# Altium integrated library NSC Interface.IntLib: 1288 symbols (part 24 of 45)
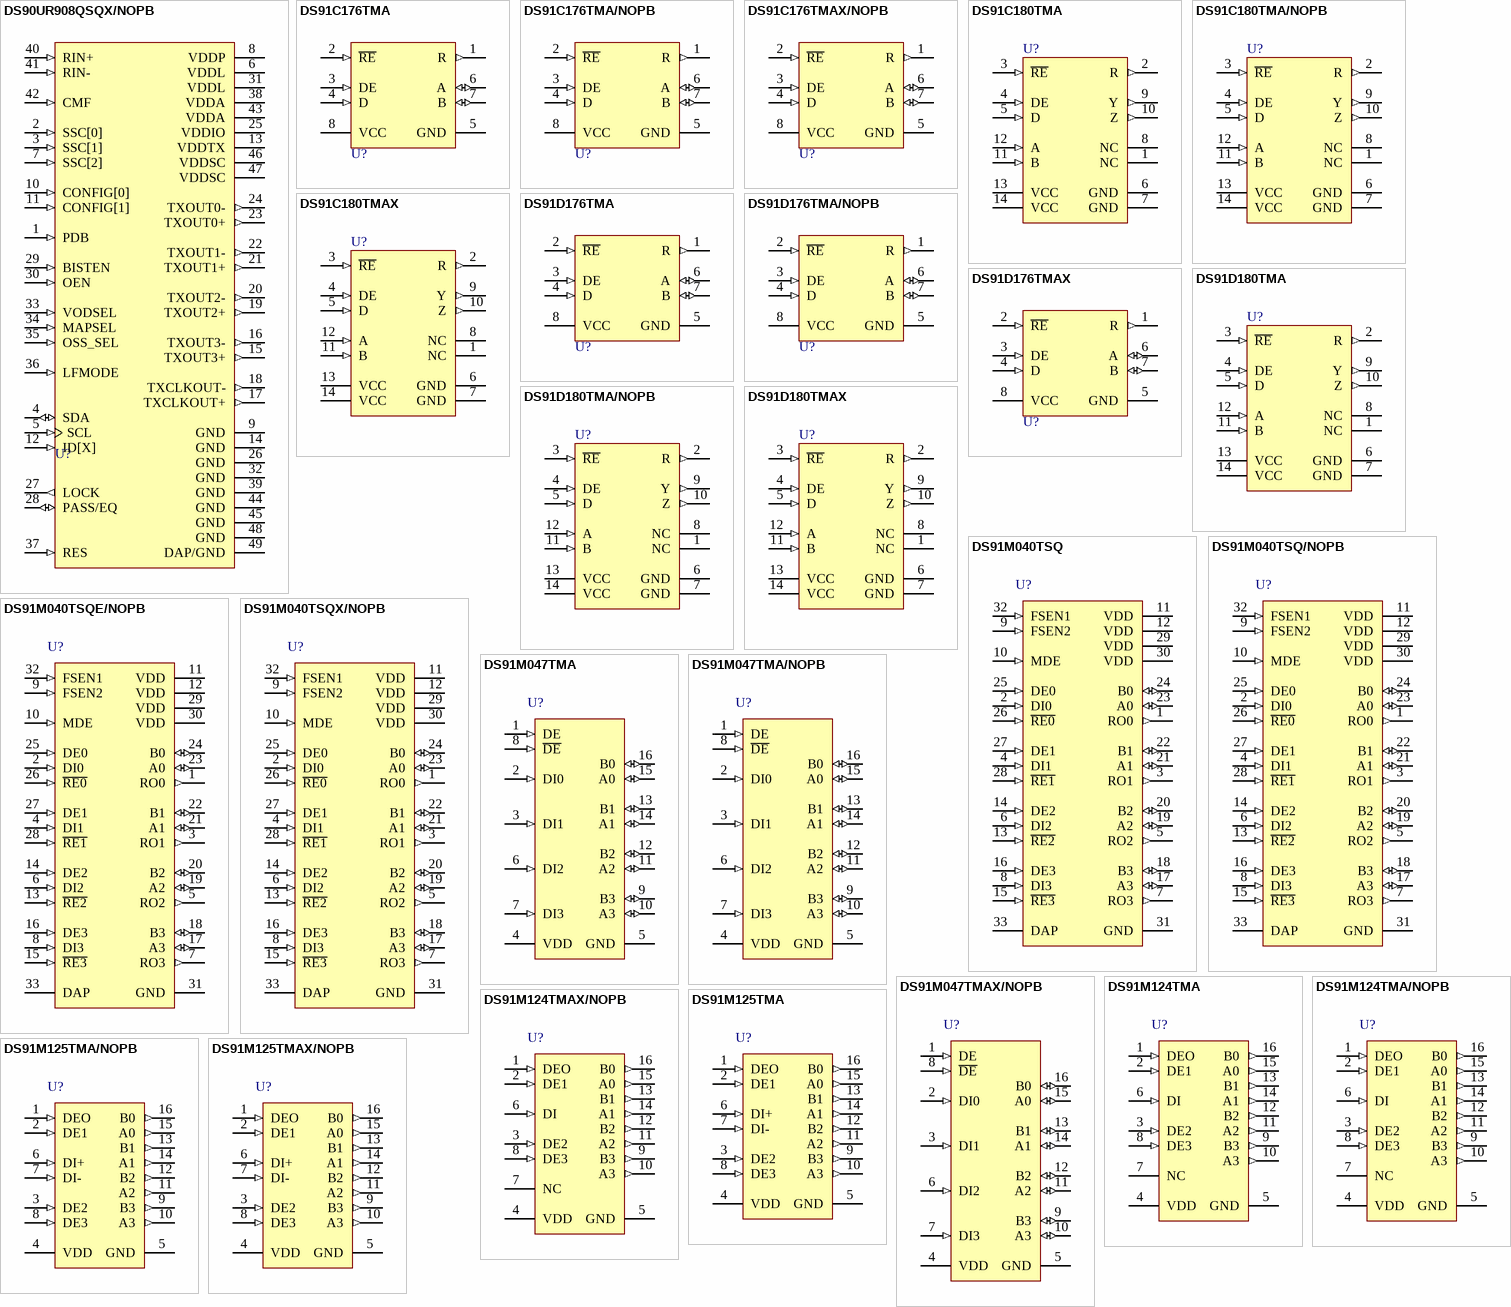
[diagram p135: symbols DS90UR908QSQX/NOPB to DS91M125TMAX/NOPB]

## DS90UR908QSQX/NOPB
designator U?
5-65 MHz 24-bit Color FPD-Link II to FPD-Link Converter, 48 pin LLP; PartNumber: DS90UR908QSQX/NOPB; Manufacturer: National Semiconductor; PackageTopMarking: NS*UZXYTTE#*90UR908Q; PowerWise: Y; CompType: Interface IC; Published: 16-Nov-2010; DatasheetVersion: Aug-2010; PackageVersion: revA, Jul-2004; PackageReference: SQA48D; Publisher: Altium Limited; PackageDescription: LLP, Quad, 7 x 7 x 0.8mm, 48 Lead, 0.5mm Pitch, 4.1 x 4.1 Exposed Pad; RoHS: Y; PinCount: 48; ComponentLink1Description: DS90UR908Q Datasheet; ComponentLink1URL: http://www.national.com/ds/DS/DS90UR908Q.pdf; ComponentLink2Description: DS90UR908Q Web Page; ComponentLink2URL: http://www.national.com/pf/DS/DS90UR908Q.html; ComponentLink3Description: SQA48D Package Page; ComponentLink3URL: http://www.national.com/packaging/folders/sqa48d.html
footprint SQA48D (QFN, 48-Leads, Body 7x7mm, Pitch 0.5mm, NSC Recommended)
pins: 1 PDB (in), 2 SSC[0] (in), 3 SSC[1] (in), 4 SDA (io), 5 SCL (in), 6 VDDL (power), 7 SSC[2] (in), 8 VDDP (power), 9 GND (power), 10 CONFIG[0] (in), 11 CONFIG[1] (in), 12 ID[X] (in), 13 VDDTX (power), 14 GND (power), 15 TXOUT3+ (out), 16 TXOUT3- (out), 17 TXCLKOUT+ (out), 18 TXCLKOUT- (out), 19 TXOUT2+ (out), 20 TXOUT2- (out), 21 TXOUT1+ (out), 22 TXOUT1- (out), 23 TXOUT0+ (out), 24 TXOUT0- (out), 25 VDDIO (power), 26 GND (power), 27 LOCK (out), 28 PASS/EQ (io), 29 BISTEN (in), 30 OEN (in), 31 VDDL (power), 32 GND (power), 33 VODSEL (in), 34 MAPSEL (in), 35 OSS_SEL (in), 36 LFMODE (in), 37 RES (in), 38 VDDA (power), 39 GND (power), 40 RIN+ (in), 41 RIN- (in), 42 CMF (in), 43 VDDA (power), 44 GND (power), 45 GND (power), 46 VDDSC (power), 47 VDDSC (power), 48 GND (power), 49 DAP/GND (power)

## DS91C176TMA
designator U?
100 MHz Single Channel M-LVDS Transceivers, 8-pin Narrow SOIC; PartNumber: DS91C176TMA; Manufacturer: National Semiconductor; PackageTopMarking: NSZXTT*DS91C*176MA; PowerWise: N; CompType: Interface IC; Published: 4-Dec-2008; DatasheetVersion: Nov-2009; PackageVersion: revM, May-2009; PackageReference: M08A; Publisher: Altium Limited; PackageDescription: SOIC Narrow, 4.9 x 3.9 x 1.45mm, 8 Lead, 1.27mm Pitch; Supplier 1: Farnell; Supplier Part Number 1: 1286828; RoHS: N; PinCount: 8; Code_JEDEC: MS-012-AA; Code_IPC: SOIC127P600-8; ComponentLink1Description: DS91C176 Datasheet; ComponentLink1URL: http://www.national.com/ds/DS/DS91C176.pdf; ComponentLink2Description: DS91C176 Web Page; ComponentLink2URL: http://www.national.com/pf/DS/DS91C176.html; ComponentLink3Description: M08A Package Page; ComponentLink3URL: http://www.national.com/packaging/folders/m08a.html
footprint M08A_N (SOIC, 8-Leads, Body 4.9x3.9mm, Pitch 1.27mm, IPC Medium Density)
footprint M08A_L (SOIC, 8-Leads, Body 4.9x3.9mm, Pitch 1.27mm, IPC High Density)
footprint M08A_M (SOIC, 8-Leads, Body 4.9x3.9mm, Pitch 1.27mm, IPC Low Density)
pins: 1 R (out), 2 ~{RE} (in), 3 DE (in), 4 D (in), 5 GND (power), 6 A (io), 7 B (io), 8 VCC (power)

## DS91C176TMA/NOPB
designator U?
100 MHz Single Channel M-LVDS Transceivers, 8-pin Narrow SOIC, Pb-Free; PartNumber: DS91C176TMA/NOPB; Manufacturer: National Semiconductor; PackageTopMarking: NSZXTT*DS91C*176MA; PowerWise: N; CompType: Interface IC; Published: 1-Mar-2010; DatasheetVersion: Nov-2009; PackageVersion: revM, May-2009; PackageReference: M08A; Publisher: Altium Limited; PackageDescription: SOIC Narrow, 4.9 x 3.9 x 1.45mm, 8 Lead, 1.27mm Pitch; Supplier 1: Farnell; Supplier Part Number 1: 1685786; RoHS: Y; PinCount: 8; Code_JEDEC: MS-012-AA; Code_IPC: SOIC127P600-8; ComponentLink1Description: DS91C176 Datasheet; ComponentLink1URL: http://www.national.com/ds/DS/DS91C176.pdf; ComponentLink2Description: DS91C176 Web Page; ComponentLink2URL: http://www.national.com/pf/DS/DS91C176.html; ComponentLink3Description: M08A Package Page; ComponentLink3URL: http://www.national.com/packaging/folders/m08a.html
footprint M08A_N (SOIC, 8-Leads, Body 4.9x3.9mm, Pitch 1.27mm, IPC Medium Density)
footprint M08A_L (SOIC, 8-Leads, Body 4.9x3.9mm, Pitch 1.27mm, IPC High Density)
footprint M08A_M (SOIC, 8-Leads, Body 4.9x3.9mm, Pitch 1.27mm, IPC Low Density)
pins: 1 R (out), 2 ~{RE} (in), 3 DE (in), 4 D (in), 5 GND (power), 6 A (io), 7 B (io), 8 VCC (power)

## DS91C176TMAX/NOPB
designator U?
100 MHz Single Channel M-LVDS Transceivers, 8-pin Narrow SOIC, Pb-Free; PartNumber: DS91C176TMAX/NOPB; Manufacturer: National Semiconductor; PackageTopMarking: NSZXTT*DS91C*176MA; PowerWise: N; CompType: Interface IC; Published: 1-Mar-2010; DatasheetVersion: Nov-2009; PackageVersion: revM, May-2009; PackageReference: M08A; Publisher: Altium Limited; PackageDescription: SOIC Narrow, 4.9 x 3.9 x 1.45mm, 8 Lead, 1.27mm Pitch; RoHS: Y; PinCount: 8; Code_JEDEC: MS-012-AA; Code_IPC: SOIC127P600-8; ComponentLink1Description: DS91C176 Datasheet; ComponentLink1URL: http://www.national.com/ds/DS/DS91C176.pdf; ComponentLink2Description: DS91C176 Web Page; ComponentLink2URL: http://www.national.com/pf/DS/DS91C176.html; ComponentLink3Description: M08A Package Page; ComponentLink3URL: http://www.national.com/packaging/folders/m08a.html
footprint M08A_N (SOIC, 8-Leads, Body 4.9x3.9mm, Pitch 1.27mm, IPC Medium Density)
footprint M08A_L (SOIC, 8-Leads, Body 4.9x3.9mm, Pitch 1.27mm, IPC High Density)
footprint M08A_M (SOIC, 8-Leads, Body 4.9x3.9mm, Pitch 1.27mm, IPC Low Density)
pins: 1 R (out), 2 ~{RE} (in), 3 DE (in), 4 D (in), 5 GND (power), 6 A (io), 7 B (io), 8 VCC (power)

## DS91C180TMA
designator U?
100 MHz M-LVDS Line Driver/Receiver Pair, 14-pin Narrow SOIC; PartNumber: DS91C180TMA; Manufacturer: National Semiconductor; PackageTopMarking: NSUZXYTT*DS91C180*TMA; PowerWise: N; CompType: Interface IC; Published: 4-Dec-2008; DatasheetVersion: Nov-2009; PackageVersion: revJ, Jan-1996; PackageReference: M14A; Publisher: Altium Limited; PackageDescription: Molded Package S.O., .150in Wide, 14 Lead; Supplier 1: Farnell; Supplier Part Number 1: 1286829; RoHS: Y; PinCount: 14; Code_JEDEC: MS-012AB; Code_IPC: SOIC127P600-14; ComponentLink1Description: DS91C180 Datasheet; ComponentLink1URL: http://www.national.com/ds/DS/DS91C180.pdf; ComponentLink2Description: DS91C180 Web Page; ComponentLink2URL: http://www.national.com/pf/DS/DS91C180.html; ComponentLink3Description: M14A Package Page; ComponentLink3URL: http://www.national.com/packaging/folders/m14a.html
footprint M14A_N (SOIC, 14-Leads, Body 8.6x3.9mm, Pitch 1.27mm, IPC Medium Density)
footprint M14A_L (SOIC, 14-Leads, Body 8.6x3.9mm, Pitch 1.27mm, IPC High Density)
footprint M14A_M (SOIC, 14-Leads, Body 8.6x3.9mm, Pitch 1.27mm, IPC Low Density)
pins: 1 NC, 2 R (out), 3 ~{RE} (in), 4 DE (in), 5 D (in), 6 GND (power), 7 GND (power), 8 NC, 9 Y (out), 10 Z (out), 11 B (in), 12 A (in), 13 VCC (power), 14 VCC (power)

## DS91C180TMA/NOPB
designator U?
100 MHz M-LVDS Line Driver/Receiver Pair, 14-pin Narrow SOIC, Pb-Free; PartNumber: DS91C180TMA/NOPB; Manufacturer: National Semiconductor; PackageTopMarking: NSUZXYTTE#*DS91C180*TMA; PowerWise: N; CompType: Interface IC; Published: 1-Mar-2010; DatasheetVersion: Nov-2009; PackageVersion: revJ, Jan-1996; PackageReference: M14A; Publisher: Altium Limited; PackageDescription: Molded Package S.O., .150in Wide, 14 Lead; RoHS: Y; PinCount: 14; Code_JEDEC: MS-012AB; Code_IPC: SOIC127P600-14; ComponentLink1Description: DS91C180 Datasheet; ComponentLink1URL: http://www.national.com/ds/DS/DS91C180.pdf; ComponentLink2Description: DS91C180 Web Page; ComponentLink2URL: http://www.national.com/pf/DS/DS91C180.html; ComponentLink3Description: M14A Package Page; ComponentLink3URL: http://www.national.com/packaging/folders/m14a.html
footprint M14A_N (SOIC, 14-Leads, Body 8.6x3.9mm, Pitch 1.27mm, IPC Medium Density)
footprint M14A_L (SOIC, 14-Leads, Body 8.6x3.9mm, Pitch 1.27mm, IPC High Density)
footprint M14A_M (SOIC, 14-Leads, Body 8.6x3.9mm, Pitch 1.27mm, IPC Low Density)
pins: 1 NC, 2 R (out), 3 ~{RE} (in), 4 DE (in), 5 D (in), 6 GND (power), 7 GND (power), 8 NC, 9 Y (out), 10 Z (out), 11 B (in), 12 A (in), 13 VCC (power), 14 VCC (power)

## DS91C180TMAX
designator U?
100 MHz M-LVDS Line Driver/Receiver Pair, 14-pin Narrow SOIC; PartNumber: DS91C180TMAX; Manufacturer: National Semiconductor; PackageTopMarking: NSUZXYTTE#*DS91C180*TMA; PowerWise: N; CompType: Interface IC; Published: 1-Mar-2010; DatasheetVersion: Nov-2009; PackageVersion: revJ, Jan-1996; PackageReference: M14A; Publisher: Altium Limited; PackageDescription: Molded Package S.O., .150in Wide, 14 Lead; RoHS: N; PinCount: 14; Code_JEDEC: MS-012AB; Code_IPC: SOIC127P600-14; ComponentLink1Description: DS91C180 Datasheet; ComponentLink1URL: http://www.national.com/ds/DS/DS91C180.pdf; ComponentLink2Description: DS91C180 Web Page; ComponentLink2URL: http://www.national.com/pf/DS/DS91C180.html; ComponentLink3Description: M14A Package Page; ComponentLink3URL: http://www.national.com/packaging/folders/m14a.html
footprint M14A_N (SOIC, 14-Leads, Body 8.6x3.9mm, Pitch 1.27mm, IPC Medium Density)
footprint M14A_L (SOIC, 14-Leads, Body 8.6x3.9mm, Pitch 1.27mm, IPC High Density)
footprint M14A_M (SOIC, 14-Leads, Body 8.6x3.9mm, Pitch 1.27mm, IPC Low Density)
pins: 1 NC, 2 R (out), 3 ~{RE} (in), 4 DE (in), 5 D (in), 6 GND (power), 7 GND (power), 8 NC, 9 Y (out), 10 Z (out), 11 B (in), 12 A (in), 13 VCC (power), 14 VCC (power)

## DS91D176TMA
designator U?
100 MHz Single Channel M-LVDS Transceivers, 8-pin Narrow SOIC; PartNumber: DS91D176TMA; Manufacturer: National Semiconductor; PackageTopMarking: NSZXTT*DS91D*176MA; PowerWise: N; CompType: Interface IC; Published: 4-Dec-2008; DatasheetVersion: Nov-2009; PackageVersion: revM, May-2009; PackageReference: M08A; Publisher: Altium Limited; PackageDescription: SOIC Narrow, 4.9 x 3.9 x 1.45mm, 8 Lead, 1.27mm Pitch; Supplier 1: Farnell; Supplier Part Number 1: 1286830; RoHS: Y; PinCount: 8; Code_JEDEC: MS-012-AA; Code_IPC: SOIC127P600-8; ComponentLink1Description: DS91D176 Datasheet; ComponentLink1URL: http://www.national.com/ds/DS/DS91D176.pdf; ComponentLink2Description: DS91D176 Web Page; ComponentLink2URL: http://www.national.com/pf/DS/DS91D176.html; ComponentLink3Description: M08A Package Page; ComponentLink3URL: http://www.national.com/packaging/folders/m08a.html
footprint M08A_N (SOIC, 8-Leads, Body 4.9x3.9mm, Pitch 1.27mm, IPC Medium Density)
footprint M08A_L (SOIC, 8-Leads, Body 4.9x3.9mm, Pitch 1.27mm, IPC High Density)
footprint M08A_M (SOIC, 8-Leads, Body 4.9x3.9mm, Pitch 1.27mm, IPC Low Density)
pins: 1 R (out), 2 ~{RE} (in), 3 DE (in), 4 D (in), 5 GND (power), 6 A (io), 7 B (io), 8 VCC (power)

## DS91D176TMA/NOPB
designator U?
100 MHz Single Channel M-LVDS Transceivers, 8-pin Narrow SOIC, Pb-Free; PartNumber: DS91D176TMA/NOPB; Manufacturer: National Semiconductor; PackageTopMarking: NSZXTT*DS91D*176MA; PowerWise: N; CompType: Interface IC; Published: 1-Mar-2010; DatasheetVersion: Nov-2009; PackageVersion: revM, May-2009; PackageReference: M08A; Publisher: Altium Limited; PackageDescription: SOIC Narrow, 4.9 x 3.9 x 1.45mm, 8 Lead, 1.27mm Pitch; Supplier 1: Farnell; Supplier Part Number 1: 1654919; RoHS: Y; PinCount: 8; Code_JEDEC: MS-012-AA; Code_IPC: SOIC127P600-8; ComponentLink1Description: DS91D176 Datasheet; ComponentLink1URL: http://www.national.com/ds/DS/DS91D176.pdf; ComponentLink2Description: DS91D176 Web Page; ComponentLink2URL: http://www.national.com/pf/DS/DS91D176.html; ComponentLink3Description: M08A Package Page; ComponentLink3URL: http://www.national.com/packaging/folders/m08a.html
footprint M08A_N (SOIC, 8-Leads, Body 4.9x3.9mm, Pitch 1.27mm, IPC Medium Density)
footprint M08A_L (SOIC, 8-Leads, Body 4.9x3.9mm, Pitch 1.27mm, IPC High Density)
footprint M08A_M (SOIC, 8-Leads, Body 4.9x3.9mm, Pitch 1.27mm, IPC Low Density)
pins: 1 R (out), 2 ~{RE} (in), 3 DE (in), 4 D (in), 5 GND (power), 6 A (io), 7 B (io), 8 VCC (power)

## DS91D176TMAX
designator U?
100 MHz Single Channel M-LVDS Transceivers, 8-pin Narrow SOIC; PartNumber: DS91D176TMAX; Manufacturer: National Semiconductor; PackageTopMarking: NSZXTT*DS91D*176MA; PowerWise: N; CompType: Interface IC; Published: 1-Mar-2010; DatasheetVersion: Nov-2009; PackageVersion: revM, May-2009; PackageReference: M08A; Publisher: Altium Limited; PackageDescription: SOIC Narrow, 4.9 x 3.9 x 1.45mm, 8 Lead, 1.27mm Pitch; RoHS: N; PinCount: 8; Code_JEDEC: MS-012-AA; Code_IPC: SOIC127P600-8; ComponentLink1Description: DS91D176 Datasheet; ComponentLink1URL: http://www.national.com/ds/DS/DS91D176.pdf; ComponentLink2Description: DS91D176 Web Page; ComponentLink2URL: http://www.national.com/pf/DS/DS91D176.html; ComponentLink3Description: M08A Package Page; ComponentLink3URL: http://www.national.com/packaging/folders/m08a.html
footprint M08A_N (SOIC, 8-Leads, Body 4.9x3.9mm, Pitch 1.27mm, IPC Medium Density)
footprint M08A_L (SOIC, 8-Leads, Body 4.9x3.9mm, Pitch 1.27mm, IPC High Density)
footprint M08A_M (SOIC, 8-Leads, Body 4.9x3.9mm, Pitch 1.27mm, IPC Low Density)
pins: 1 R (out), 2 ~{RE} (in), 3 DE (in), 4 D (in), 5 GND (power), 6 A (io), 7 B (io), 8 VCC (power)

## DS91D180TMA
designator U?
100 MHz M-LVDS Line Driver/Receiver Pair, 14-pin Narrow SOIC; PartNumber: DS91D180TMA; Manufacturer: National Semiconductor; PackageTopMarking: NSUZXYTTE#*DS91D180*TMA; PowerWise: N; CompType: Interface IC; Published: 4-Dec-2008; DatasheetVersion: Nov-2009; PackageVersion: revJ, Jan-1996; PackageReference: M14A; Publisher: Altium Limited; PackageDescription: Molded Package S.O., .150in Wide, 14 Lead; Supplier 1: Farnell; Supplier Part Number 1: 1286831; RoHS: N; PinCount: 14; Code_JEDEC: MS-012AB; Code_IPC: SOIC127P600-14; ComponentLink1Description: DS91D180 Datasheet; ComponentLink1URL: http://www.national.com/ds/DS/DS91D180.pdf; ComponentLink2Description: DS91D180 Web Page; ComponentLink2URL: http://www.national.com/pf/DS/DS91D180.html; ComponentLink3Description: M14A Package Page; ComponentLink3URL: http://www.national.com/packaging/folders/m14a.html
footprint M14A_N (SOIC, 14-Leads, Body 8.6x3.9mm, Pitch 1.27mm, IPC Medium Density)
footprint M14A_L (SOIC, 14-Leads, Body 8.6x3.9mm, Pitch 1.27mm, IPC High Density)
footprint M14A_M (SOIC, 14-Leads, Body 8.6x3.9mm, Pitch 1.27mm, IPC Low Density)
pins: 1 NC, 2 R (out), 3 ~{RE} (in), 4 DE (in), 5 D (in), 6 GND (power), 7 GND (power), 8 NC, 9 Y (out), 10 Z (out), 11 B (in), 12 A (in), 13 VCC (power), 14 VCC (power)

## DS91D180TMA/NOPB
designator U?
100 MHz M-LVDS Line Driver/Receiver Pair, 14-pin Narrow SOIC, Pb-Free; PartNumber: DS91D180TMA/NOPB; Manufacturer: National Semiconductor; PackageTopMarking: NSUZXYTTE#*DS91D180*TMA; PowerWise: N; CompType: Interface IC; Published: 1-Mar-2010; DatasheetVersion: Nov-2009; PackageVersion: revJ, Jan-1996; PackageReference: M14A; Publisher: Altium Limited; PackageDescription: Molded Package S.O., .150in Wide, 14 Lead; RoHS: Y; PinCount: 14; Code_JEDEC: MS-012AB; Code_IPC: SOIC127P600-14; ComponentLink1Description: DS91D180 Datasheet; ComponentLink1URL: http://www.national.com/ds/DS/DS91D180.pdf; ComponentLink2Description: DS91D180 Web Page; ComponentLink2URL: http://www.national.com/pf/DS/DS91D180.html; ComponentLink3Description: M14A Package Page; ComponentLink3URL: http://www.national.com/packaging/folders/m14a.html
footprint M14A_N (SOIC, 14-Leads, Body 8.6x3.9mm, Pitch 1.27mm, IPC Medium Density)
footprint M14A_L (SOIC, 14-Leads, Body 8.6x3.9mm, Pitch 1.27mm, IPC High Density)
footprint M14A_M (SOIC, 14-Leads, Body 8.6x3.9mm, Pitch 1.27mm, IPC Low Density)
pins: 1 NC, 2 R (out), 3 ~{RE} (in), 4 DE (in), 5 D (in), 6 GND (power), 7 GND (power), 8 NC, 9 Y (out), 10 Z (out), 11 B (in), 12 A (in), 13 VCC (power), 14 VCC (power)

## DS91D180TMAX
designator U?
100 MHz M-LVDS Line Driver/Receiver Pair, 14-pin Narrow SOIC; PartNumber: DS91D180TMAX; Manufacturer: National Semiconductor; PackageTopMarking: NSUZXYTTE#*DS91D180*TMA; PowerWise: N; CompType: Interface IC; Published: 1-Mar-2010; DatasheetVersion: Nov-2009; PackageVersion: revJ, Jan-1996; PackageReference: M14A; Publisher: Altium Limited; PackageDescription: Molded Package S.O., .150in Wide, 14 Lead; RoHS: N; PinCount: 14; Code_JEDEC: MS-012AB; Code_IPC: SOIC127P600-14; ComponentLink1Description: DS91D180 Datasheet; ComponentLink1URL: http://www.national.com/ds/DS/DS91D180.pdf; ComponentLink2Description: DS91D180 Web Page; ComponentLink2URL: http://www.national.com/pf/DS/DS91D180.html; ComponentLink3Description: M14A Package Page; ComponentLink3URL: http://www.national.com/packaging/folders/m14a.html
footprint M14A_N (SOIC, 14-Leads, Body 8.6x3.9mm, Pitch 1.27mm, IPC Medium Density)
footprint M14A_L (SOIC, 14-Leads, Body 8.6x3.9mm, Pitch 1.27mm, IPC High Density)
footprint M14A_M (SOIC, 14-Leads, Body 8.6x3.9mm, Pitch 1.27mm, IPC Low Density)
pins: 1 NC, 2 R (out), 3 ~{RE} (in), 4 DE (in), 5 D (in), 6 GND (power), 7 GND (power), 8 NC, 9 Y (out), 10 Z (out), 11 B (in), 12 A (in), 13 VCC (power), 14 VCC (power)

## DS91M040TSQ
designator U?
125 MHz Quad M-LVDS Transceiver, 32-pin LLP; PartNumber: DS91M040TSQ; Manufacturer: National Semiconductor; PackageTopMarking: NS*UZXYTT*M040TS; PowerWise: N; CompType: Interface IC; Published: 4-Dec-2008; DatasheetVersion: Oct-2008; PackageVersion: revB, Oct-2009; PackageReference: SQA32A; Publisher: Altium Limited; PackageDescription: LLP, Quad, 5 x 5 x 0.8mm, 32 Lead, 0.5mm Pitch, No Pullback 3.1 x 3.1 Exposed Pad; RoHS: Y; PinCount: 32; ComponentLink1Description: DS91M040 Datasheet; ComponentLink1URL: http://www.national.com/ds/DS/DS91M040.pdf; ComponentLink2Description: DS91M040 Web Page; ComponentLink2URL: http://www.national.com/pf/DS/DS91M040.html; ComponentLink3Description: SQA32A Package Page; ComponentLink3URL: http://www.national.com/packaging/folders/sqa32a.html
footprint SQA32A (QFN, 32-Leads, Body 5x5mm, Pitch 0.5mm, NSC Recommended)
pins: 1 RO0 (out), 2 DI0 (in), 3 RO1 (out), 4 DI1 (in), 5 RO2 (out), 6 DI2 (in), 7 RO3 (out), 8 DI3 (in), 9 FSEN2 (in), 10 MDE (in), 11 VDD (power), 12 VDD (power), 13 ~{RE2} (in), 14 DE2 (in), 15 ~{RE3} (in), 16 DE3 (in), 17 A3 (io), 18 B3 (io), 19 A2 (io), 20 B2 (io), 21 A1 (io), 22 B1 (io), 23 A0 (io), 24 B0 (io), 25 DE0 (in), 26 ~{RE0} (in), 27 DE1 (in), 28 ~{RE1} (in), 29 VDD (power), 30 VDD (power), 31 GND (power), 32 FSEN1 (in), 33 DAP (power)

## DS91M040TSQ/NOPB
designator U?
125 MHz Quad M-LVDS Transceiver, 32-pin LLP, Pb-Free; PartNumber: DS91M040TSQ/NOPB; Manufacturer: National Semiconductor; PackageTopMarking: NS*UZXYTT*M040TS; PowerWise: N; CompType: Interface IC; Published: 1-Mar-2010; DatasheetVersion: Oct-2008; PackageVersion: revB, Oct-2009; PackageReference: SQA32A; Publisher: Altium Limited; PackageDescription: LLP, Quad, 5 x 5 x 0.8mm, 32 Lead, 0.5mm Pitch, No Pullback 3.1 x 3.1 Exposed Pad; RoHS: Y; PinCount: 32; ComponentLink1Description: DS91M040 Datasheet; ComponentLink1URL: http://www.national.com/ds/DS/DS91M040.pdf; ComponentLink2Description: DS91M040 Web Page; ComponentLink2URL: http://www.national.com/pf/DS/DS91M040.html; ComponentLink3Description: SQA32A Package Page; ComponentLink3URL: http://www.national.com/packaging/folders/sqa32a.html
footprint SQA32A (QFN, 32-Leads, Body 5x5mm, Pitch 0.5mm, NSC Recommended)
pins: 1 RO0 (out), 2 DI0 (in), 3 RO1 (out), 4 DI1 (in), 5 RO2 (out), 6 DI2 (in), 7 RO3 (out), 8 DI3 (in), 9 FSEN2 (in), 10 MDE (in), 11 VDD (power), 12 VDD (power), 13 ~{RE2} (in), 14 DE2 (in), 15 ~{RE3} (in), 16 DE3 (in), 17 A3 (io), 18 B3 (io), 19 A2 (io), 20 B2 (io), 21 A1 (io), 22 B1 (io), 23 A0 (io), 24 B0 (io), 25 DE0 (in), 26 ~{RE0} (in), 27 DE1 (in), 28 ~{RE1} (in), 29 VDD (power), 30 VDD (power), 31 GND (power), 32 FSEN1 (in), 33 DAP (power)

## DS91M040TSQE/NOPB
designator U?
125 MHz Quad M-LVDS Transceiver, 32-pin LLP, Pb-Free; PartNumber: DS91M040TSQE/NOPB; Manufacturer: National Semiconductor; PackageTopMarking: NS*UZXYTT*M040TS; PowerWise: N; CompType: Interface IC; Published: 1-Mar-2010; DatasheetVersion: Oct-2008; PackageVersion: revB, Oct-2009; PackageReference: SQA32A; Publisher: Altium Limited; PackageDescription: LLP, Quad, 5 x 5 x 0.8mm, 32 Lead, 0.5mm Pitch, No Pullback 3.1 x 3.1 Exposed Pad; Supplier 1: Farnell; Supplier Part Number 1: 1685781; RoHS: Y; PinCount: 32; ComponentLink1Description: DS91M040 Datasheet; ComponentLink1URL: http://www.national.com/ds/DS/DS91M040.pdf; ComponentLink2Description: DS91M040 Web Page; ComponentLink2URL: http://www.national.com/pf/DS/DS91M040.html; ComponentLink3Description: SQA32A Package Page; ComponentLink3URL: http://www.national.com/packaging/folders/sqa32a.html
footprint SQA32A (QFN, 32-Leads, Body 5x5mm, Pitch 0.5mm, NSC Recommended)
pins: 1 RO0 (out), 2 DI0 (in), 3 RO1 (out), 4 DI1 (in), 5 RO2 (out), 6 DI2 (in), 7 RO3 (out), 8 DI3 (in), 9 FSEN2 (in), 10 MDE (in), 11 VDD (power), 12 VDD (power), 13 ~{RE2} (in), 14 DE2 (in), 15 ~{RE3} (in), 16 DE3 (in), 17 A3 (io), 18 B3 (io), 19 A2 (io), 20 B2 (io), 21 A1 (io), 22 B1 (io), 23 A0 (io), 24 B0 (io), 25 DE0 (in), 26 ~{RE0} (in), 27 DE1 (in), 28 ~{RE1} (in), 29 VDD (power), 30 VDD (power), 31 GND (power), 32 FSEN1 (in), 33 DAP (power)

## DS91M040TSQX/NOPB
designator U?
125 MHz Quad M-LVDS Transceiver, 32-pin LLP, Pb-Free; PartNumber: DS91M040TSQX/NOPB; Manufacturer: National Semiconductor; PackageTopMarking: NS*UZXYTT*M040TS; PowerWise: N; CompType: Interface IC; Published: 1-Mar-2010; DatasheetVersion: Oct-2008; PackageVersion: revB, Oct-2009; PackageReference: SQA32A; Publisher: Altium Limited; PackageDescription: LLP, Quad, 5 x 5 x 0.8mm, 32 Lead, 0.5mm Pitch, No Pullback 3.1 x 3.1 Exposed Pad; RoHS: Y; PinCount: 32; ComponentLink1Description: DS91M040 Datasheet; ComponentLink1URL: http://www.national.com/ds/DS/DS91M040.pdf; ComponentLink2Description: DS91M040 Web Page; ComponentLink2URL: http://www.national.com/pf/DS/DS91M040.html; ComponentLink3Description: SQA32A Package Page; ComponentLink3URL: http://www.national.com/packaging/folders/sqa32a.html
footprint SQA32A (QFN, 32-Leads, Body 5x5mm, Pitch 0.5mm, NSC Recommended)
pins: 1 RO0 (out), 2 DI0 (in), 3 RO1 (out), 4 DI1 (in), 5 RO2 (out), 6 DI2 (in), 7 RO3 (out), 8 DI3 (in), 9 FSEN2 (in), 10 MDE (in), 11 VDD (power), 12 VDD (power), 13 ~{RE2} (in), 14 DE2 (in), 15 ~{RE3} (in), 16 DE3 (in), 17 A3 (io), 18 B3 (io), 19 A2 (io), 20 B2 (io), 21 A1 (io), 22 B1 (io), 23 A0 (io), 24 B0 (io), 25 DE0 (in), 26 ~{RE0} (in), 27 DE1 (in), 28 ~{RE1} (in), 29 VDD (power), 30 VDD (power), 31 GND (power), 32 FSEN1 (in), 33 DAP (power)

## DS91M047TMA
designator U?
125 MHz Quad M-LVDS Line Driver, 16-pin Narrow SOIC; PartNumber: DS91M047TMA; Manufacturer: National Semiconductor; PackageTopMarking: NSUZXYTT*DS91M047*TMA; PowerWise: N; CompType: Interface IC; Published: 4-Dec-2008; DatasheetVersion: Oct-2008; PackageVersion: revJ, Aug-1995; PackageReference: M16A; Publisher: Altium Limited; PackageDescription: Molded Package, SO, .150in Wide, 16 Lead; Supplier 1: Farnell; Supplier Part Number 1: 1689552; RoHS: Y; PinCount: 16; Code_JEDEC: MS-012-AC; Code_IPC: SOIC127P600-16; ComponentLink1Description: DS91M047 Datasheet; ComponentLink1URL: http://www.national.com/ds/DS/DS91M047.pdf; ComponentLink2Description: DS91M047 Web Page; ComponentLink2URL: http://www.national.com/pf/DS/DS91M047.html; ComponentLink3Description: M16A Package Page; ComponentLink3URL: http://www.national.com/packaging/folders/m16a.html
footprint M16A_N (SOIC, 16-Leads, Body 9.9x3.9mm, Pitch 1.27mm, IPC Medium Density)
footprint M16A_L (SOIC, 16-Leads, Body 9.9x3.9mm, Pitch 1.27mm, IPC High Density)
footprint M16A_M (SOIC, 16-Leads, Body 9.9x3.9mm, Pitch 1.27mm, IPC Low Density)
pins: 1 DE (in), 2 DI0 (in), 3 DI1 (in), 4 VDD (power), 5 GND (power), 6 DI2 (in), 7 DI3 (in), 8 ~{DE} (in), 9 B3 (io), 10 A3 (io), 11 A2 (io), 12 B2 (io), 13 B1 (io), 14 A1 (io), 15 A0 (io), 16 B0 (io)

## DS91M047TMA/NOPB
designator U?
125 MHz Quad M-LVDS Line Driver, 16-pin Narrow SOIC, Pb-Free; PartNumber: DS91M047TMA/NOPB; Manufacturer: National Semiconductor; PackageTopMarking: NSUZXYTTE#*DS91M047*TMA; PowerWise: N; CompType: Interface IC; Published: 1-Mar-2010; DatasheetVersion: Oct-2008; PackageVersion: revJ, Aug-1995; PackageReference: M16A; Publisher: Altium Limited; PackageDescription: Molded Package, SO, .150in Wide, 16 Lead; Supplier 1: Farnell; Supplier Part Number 1: 1690839; RoHS: Y; PinCount: 16; Code_JEDEC: MS-012-AC; Code_IPC: SOIC127P600-16; ComponentLink1Description: DS91M047 Datasheet; ComponentLink1URL: http://www.national.com/ds/DS/DS91M047.pdf; ComponentLink2Description: DS91M047 Web Page; ComponentLink2URL: http://www.national.com/pf/DS/DS91M047.html; ComponentLink3Description: M16A Package Page; ComponentLink3URL: http://www.national.com/packaging/folders/m16a.html
footprint M16A_N (SOIC, 16-Leads, Body 9.9x3.9mm, Pitch 1.27mm, IPC Medium Density)
footprint M16A_L (SOIC, 16-Leads, Body 9.9x3.9mm, Pitch 1.27mm, IPC High Density)
footprint M16A_M (SOIC, 16-Leads, Body 9.9x3.9mm, Pitch 1.27mm, IPC Low Density)
pins: 1 DE (in), 2 DI0 (in), 3 DI1 (in), 4 VDD (power), 5 GND (power), 6 DI2 (in), 7 DI3 (in), 8 ~{DE} (in), 9 B3 (io), 10 A3 (io), 11 A2 (io), 12 B2 (io), 13 B1 (io), 14 A1 (io), 15 A0 (io), 16 B0 (io)

## DS91M047TMAX/NOPB
designator U?
125 MHz Quad M-LVDS Line Driver, 16-pin Narrow SOIC, Pb-Free; PartNumber: DS91M047TMAX/NOPB; Manufacturer: National Semiconductor; PackageTopMarking: NSUZXYTTE#*DS91M047*TMA; PowerWise: N; CompType: Interface IC; Published: 1-Mar-2010; DatasheetVersion: Oct-2008; PackageVersion: revJ, Aug-1995; PackageReference: M16A; Publisher: Altium Limited; PackageDescription: Molded Package, SO, .150in Wide, 16 Lead; RoHS: Y; PinCount: 16; Code_JEDEC: MS-012-AC; Code_IPC: SOIC127P600-16; ComponentLink1Description: DS91M047 Datasheet; ComponentLink1URL: http://www.national.com/ds/DS/DS91M047.pdf; ComponentLink2Description: DS91M047 Web Page; ComponentLink2URL: http://www.national.com/pf/DS/DS91M047.html; ComponentLink3Description: M16A Package Page; ComponentLink3URL: http://www.national.com/packaging/folders/m16a.html
footprint M16A_N (SOIC, 16-Leads, Body 9.9x3.9mm, Pitch 1.27mm, IPC Medium Density)
footprint M16A_L (SOIC, 16-Leads, Body 9.9x3.9mm, Pitch 1.27mm, IPC High Density)
footprint M16A_M (SOIC, 16-Leads, Body 9.9x3.9mm, Pitch 1.27mm, IPC Low Density)
pins: 1 DE (in), 2 DI0 (in), 3 DI1 (in), 4 VDD (power), 5 GND (power), 6 DI2 (in), 7 DI3 (in), 8 ~{DE} (in), 9 B3 (io), 10 A3 (io), 11 A2 (io), 12 B2 (io), 13 B1 (io), 14 A1 (io), 15 A0 (io), 16 B0 (io)

## DS91M124TMA
designator U?
125 MHz 1:4 M-LVDS Repeater with LVCMOS Input, 16-pin Narrow SOIC; PartNumber: DS91M124TMA; Manufacturer: National Semiconductor; PackageTopMarking: NSUZXYTT*DS91M124*TMA; PowerWise: N; CompType: Interface IC; Published: 4-Dec-2008; DatasheetVersion: Oct-2008; PackageVersion: revJ, Aug-1995; PackageReference: M16A; Publisher: Altium Limited; PackageDescription: Molded Package, SO, .150in Wide, 16 Lead; Supplier 1: Farnell; Supplier Part Number 1: 1689548; RoHS: Y; PinCount: 16; Code_JEDEC: MS-012-AC; Code_IPC: SOIC127P600-16; ComponentLink1Description: DS91M124 Datasheet; ComponentLink1URL: http://www.national.com/ds/DS/DS91M124.pdf; ComponentLink2Description: DS91M124 Web Page; ComponentLink2URL: http://www.national.com/pf/DS/DS91M124.html; ComponentLink3Description: M16A Package Page; ComponentLink3URL: http://www.national.com/packaging/folders/m16a.html
footprint M16A_N (SOIC, 16-Leads, Body 9.9x3.9mm, Pitch 1.27mm, IPC Medium Density)
footprint M16A_L (SOIC, 16-Leads, Body 9.9x3.9mm, Pitch 1.27mm, IPC High Density)
footprint M16A_M (SOIC, 16-Leads, Body 9.9x3.9mm, Pitch 1.27mm, IPC Low Density)
pins: 1 DEO (in), 2 DE1 (in), 3 DE2 (in), 4 VDD (power), 5 GND (power), 6 DI (in), 7 NC, 8 DE3 (in), 9 B3 (out), 10 A3 (out), 11 A2 (out), 12 B2 (out), 13 B1 (out), 14 A1 (out), 15 A0 (out), 16 B0 (out)

## DS91M124TMA/NOPB
designator U?
125 MHz 1:4 M-LVDS Repeater with LVCMOS Input, 16-pin Narrow SOIC, Pb-Free; PartNumber: DS91M124TMA/NOPB; Manufacturer: National Semiconductor; PackageTopMarking: NSUZXYTTE#*DS91M124*TMA; PowerWise: N; CompType: Interface IC; Published: 1-Mar-2010; DatasheetVersion: Oct-2008; PackageVersion: revJ, Aug-1995; PackageReference: M16A; Publisher: Altium Limited; PackageDescription: Molded Package, SO, .150in Wide, 16 Lead; RoHS: Y; PinCount: 16; Code_JEDEC: MS-012-AC; Code_IPC: SOIC127P600-16; ComponentLink1Description: DS91M124 Datasheet; ComponentLink1URL: http://www.national.com/ds/DS/DS91M124.pdf; ComponentLink2Description: DS91M124 Web Page; ComponentLink2URL: http://www.national.com/pf/DS/DS91M124.html; ComponentLink3Description: M16A Package Page; ComponentLink3URL: http://www.national.com/packaging/folders/m16a.html
footprint M16A_N (SOIC, 16-Leads, Body 9.9x3.9mm, Pitch 1.27mm, IPC Medium Density)
footprint M16A_L (SOIC, 16-Leads, Body 9.9x3.9mm, Pitch 1.27mm, IPC High Density)
footprint M16A_M (SOIC, 16-Leads, Body 9.9x3.9mm, Pitch 1.27mm, IPC Low Density)
pins: 1 DEO (in), 2 DE1 (in), 3 DE2 (in), 4 VDD (power), 5 GND (power), 6 DI (in), 7 NC, 8 DE3 (in), 9 B3 (out), 10 A3 (out), 11 A2 (out), 12 B2 (out), 13 B1 (out), 14 A1 (out), 15 A0 (out), 16 B0 (out)

## DS91M124TMAX/NOPB
designator U?
125 MHz 1:4 M-LVDS Repeater with LVCMOS Input, 16-pin Narrow SOIC, Pb-Free; PartNumber: DS91M124TMAX/NOPB; Manufacturer: National Semiconductor; PackageTopMarking: NSUZXYTTE#*DS91M124*TMA; PowerWise: N; CompType: Interface IC; Published: 1-Mar-2010; DatasheetVersion: Oct-2008; PackageVersion: revJ, Aug-1995; PackageReference: M16A; Publisher: Altium Limited; PackageDescription: Molded Package, SO, .150in Wide, 16 Lead; RoHS: Y; PinCount: 16; Code_JEDEC: MS-012-AC; Code_IPC: SOIC127P600-16; ComponentLink1Description: DS91M124 Datasheet; ComponentLink1URL: http://www.national.com/ds/DS/DS91M124.pdf; ComponentLink2Description: DS91M124 Web Page; ComponentLink2URL: http://www.national.com/pf/DS/DS91M124.html; ComponentLink3Description: M16A Package Page; ComponentLink3URL: http://www.national.com/packaging/folders/m16a.html
footprint M16A_N (SOIC, 16-Leads, Body 9.9x3.9mm, Pitch 1.27mm, IPC Medium Density)
footprint M16A_L (SOIC, 16-Leads, Body 9.9x3.9mm, Pitch 1.27mm, IPC High Density)
footprint M16A_M (SOIC, 16-Leads, Body 9.9x3.9mm, Pitch 1.27mm, IPC Low Density)
pins: 1 DEO (in), 2 DE1 (in), 3 DE2 (in), 4 VDD (power), 5 GND (power), 6 DI (in), 7 NC, 8 DE3 (in), 9 B3 (out), 10 A3 (out), 11 A2 (out), 12 B2 (out), 13 B1 (out), 14 A1 (out), 15 A0 (out), 16 B0 (out)

## DS91M125TMA
designator U?
125 MHz 1:4 M-LVDS Repeater with LVDS Input, 16-pin Narrow SOIC; PartNumber: DS91M125TMA; Manufacturer: National Semiconductor; PackageTopMarking: NSUZXYTT*DS91M125*TMA; PowerWise: N; CompType: Interface IC; Published: 4-Dec-2008; DatasheetVersion: Oct-2008; PackageVersion: revJ, Aug-1995; PackageReference: M16A; Publisher: Altium Limited; PackageDescription: Molded Package, SO, .150in Wide, 16 Lead; Supplier 1: Farnell; Supplier Part Number 1: 1689549; RoHS: Y; PinCount: 16; Code_JEDEC: MS-012-AC; Code_IPC: SOIC127P600-16; ComponentLink1Description: DS91M125 Datasheet; ComponentLink1URL: http://www.national.com/ds/DS/DS91M125.pdf; ComponentLink2Description: DS91M125 Web Page; ComponentLink2URL: http://www.national.com/pf/DS/DS91M125.html; ComponentLink3Description: M16A Package Page; ComponentLink3URL: http://www.national.com/packaging/folders/m16a.html
footprint M16A_N (SOIC, 16-Leads, Body 9.9x3.9mm, Pitch 1.27mm, IPC Medium Density)
footprint M16A_L (SOIC, 16-Leads, Body 9.9x3.9mm, Pitch 1.27mm, IPC High Density)
footprint M16A_M (SOIC, 16-Leads, Body 9.9x3.9mm, Pitch 1.27mm, IPC Low Density)
pins: 1 DEO (in), 2 DE1 (in), 3 DE2 (in), 4 VDD (power), 5 GND (power), 6 DI+ (in), 7 DI- (in), 8 DE3 (in), 9 B3 (out), 10 A3 (out), 11 A2 (out), 12 B2 (out), 13 B1 (out), 14 A1 (out), 15 A0 (out), 16 B0 (out)

## DS91M125TMA/NOPB
designator U?
125 MHz 1:4 M-LVDS Repeater with LVDS Input, 16-pin Narrow SOIC, Pb-Free; PartNumber: DS91M125TMA/NOPB; Manufacturer: National Semiconductor; PackageTopMarking: NSUZXYTTE#*DS91M125*TMA; PowerWise: N; CompType: Interface IC; Published: 1-Mar-2010; DatasheetVersion: Oct-2008; PackageVersion: revJ, Aug-1995; PackageReference: M16A; Publisher: Altium Limited; PackageDescription: Molded Package, SO, .150in Wide, 16 Lead; Supplier 1: Farnell; Supplier Part Number 1: 1690927; RoHS: Y; PinCount: 16; Code_JEDEC: MS-012-AC; Code_IPC: SOIC127P600-16; ComponentLink1Description: DS91M125 Datasheet; ComponentLink1URL: http://www.national.com/ds/DS/DS91M125.pdf; ComponentLink2Description: DS91M125 Web Page; ComponentLink2URL: http://www.national.com/pf/DS/DS91M125.html; ComponentLink3Description: M16A Package Page; ComponentLink3URL: http://www.national.com/packaging/folders/m16a.html
footprint M16A_N (SOIC, 16-Leads, Body 9.9x3.9mm, Pitch 1.27mm, IPC Medium Density)
footprint M16A_L (SOIC, 16-Leads, Body 9.9x3.9mm, Pitch 1.27mm, IPC High Density)
footprint M16A_M (SOIC, 16-Leads, Body 9.9x3.9mm, Pitch 1.27mm, IPC Low Density)
pins: 1 DEO (in), 2 DE1 (in), 3 DE2 (in), 4 VDD (power), 5 GND (power), 6 DI+ (in), 7 DI- (in), 8 DE3 (in), 9 B3 (out), 10 A3 (out), 11 A2 (out), 12 B2 (out), 13 B1 (out), 14 A1 (out), 15 A0 (out), 16 B0 (out)

## DS91M125TMAX/NOPB
designator U?
125 MHz 1:4 M-LVDS Repeater with LVDS Input, 16-pin Narrow SOIC, Pb-Free; PartNumber: DS91M125TMAX/NOPB; Manufacturer: National Semiconductor; PackageTopMarking: NSUZXYTTE#*DS91M125*TMA; PowerWise: N; CompType: Interface IC; Published: 1-Mar-2010; DatasheetVersion: Oct-2008; PackageVersion: revJ, Aug-1995; PackageReference: M16A; Publisher: Altium Limited; PackageDescription: Molded Package, SO, .150in Wide, 16 Lead; RoHS: Y; PinCount: 16; Code_JEDEC: MS-012-AC; Code_IPC: SOIC127P600-16; ComponentLink1Description: DS91M125 Datasheet; ComponentLink1URL: http://www.national.com/ds/DS/DS91M125.pdf; ComponentLink2Description: DS91M125 Web Page; ComponentLink2URL: http://www.national.com/pf/DS/DS91M125.html; ComponentLink3Description: M16A Package Page; ComponentLink3URL: http://www.national.com/packaging/folders/m16a.html
footprint M16A_N (SOIC, 16-Leads, Body 9.9x3.9mm, Pitch 1.27mm, IPC Medium Density)
footprint M16A_L (SOIC, 16-Leads, Body 9.9x3.9mm, Pitch 1.27mm, IPC High Density)
footprint M16A_M (SOIC, 16-Leads, Body 9.9x3.9mm, Pitch 1.27mm, IPC Low Density)
pins: 1 DEO (in), 2 DE1 (in), 3 DE2 (in), 4 VDD (power), 5 GND (power), 6 DI+ (in), 7 DI- (in), 8 DE3 (in), 9 B3 (out), 10 A3 (out), 11 A2 (out), 12 B2 (out), 13 B1 (out), 14 A1 (out), 15 A0 (out), 16 B0 (out)

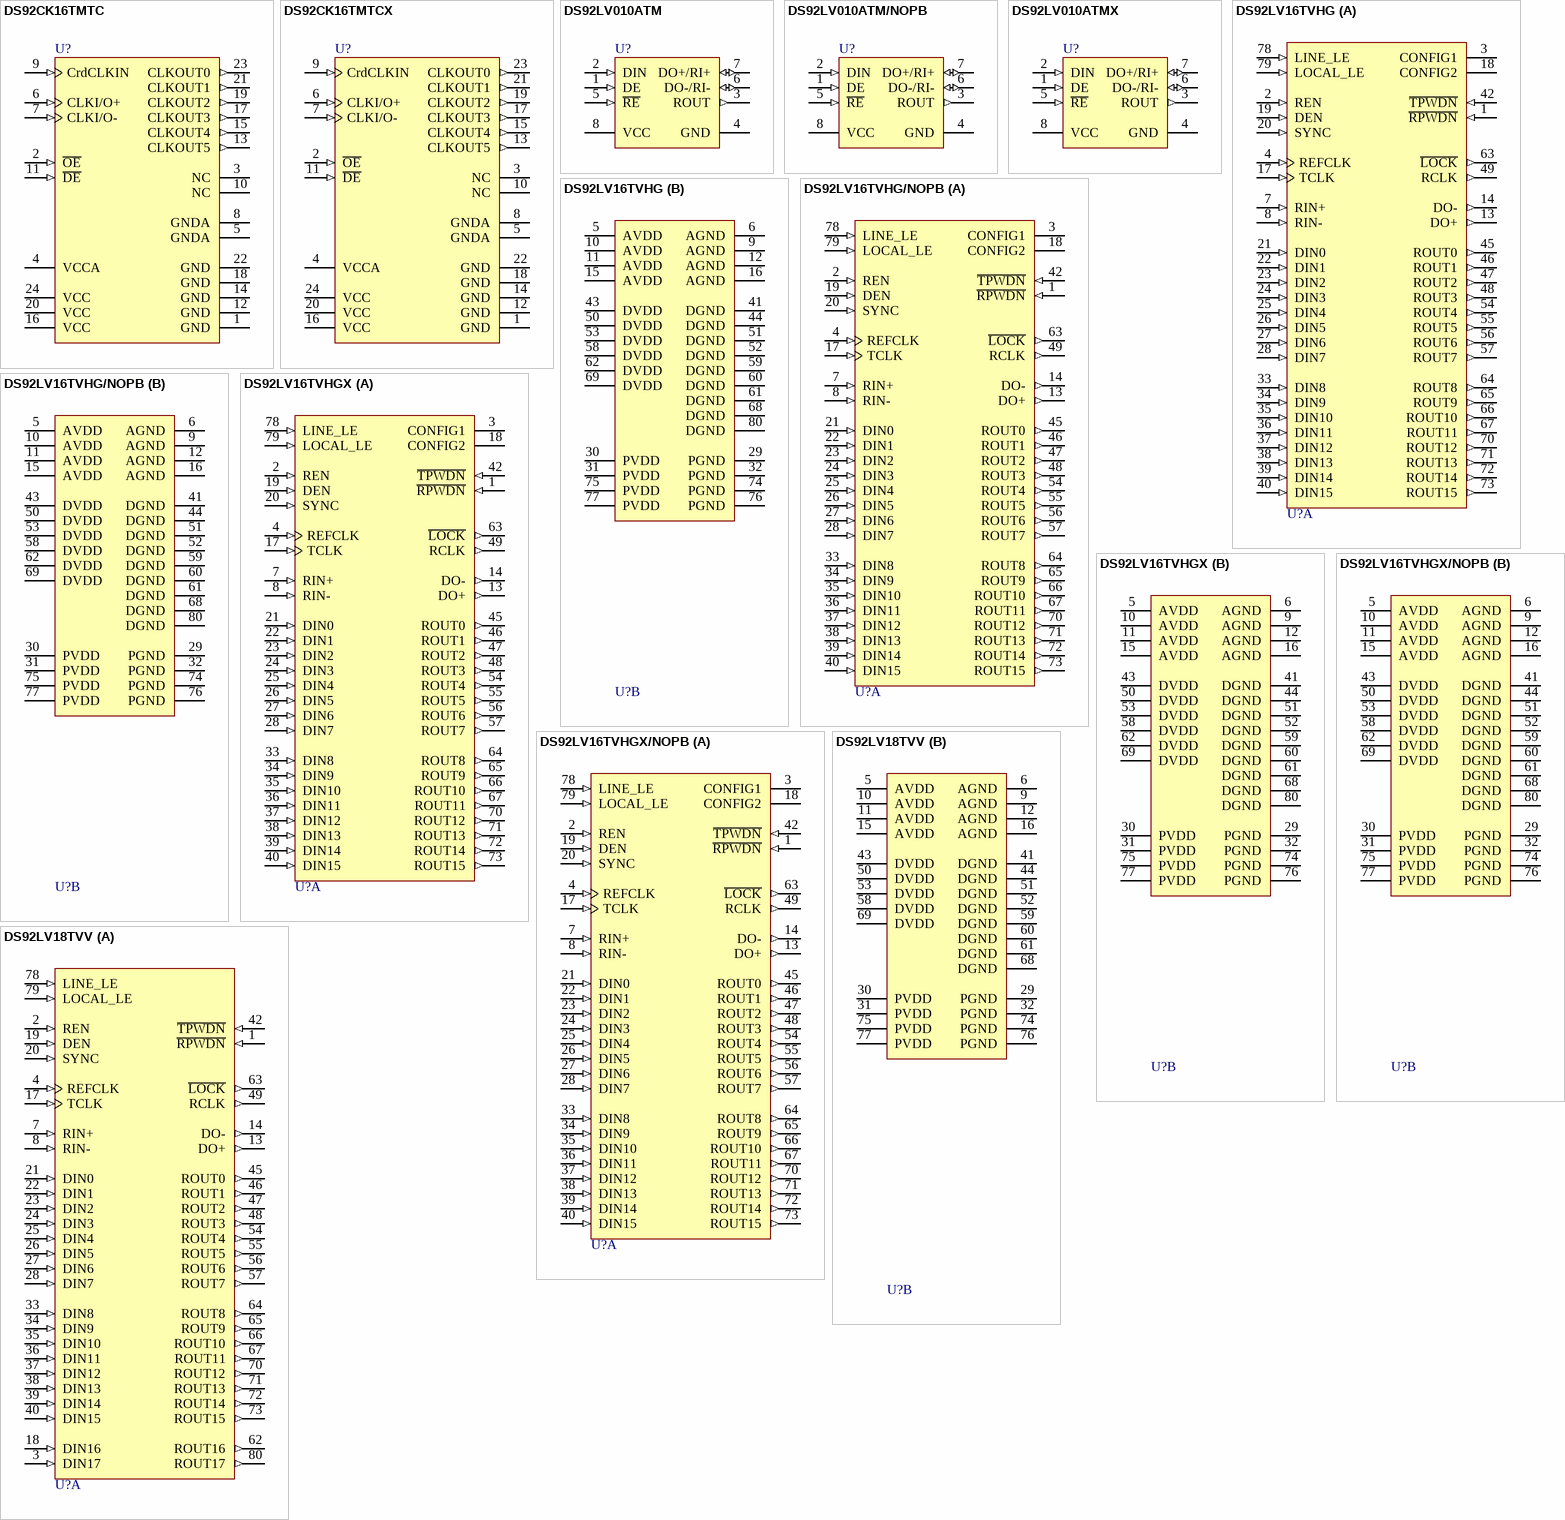
[diagram p64: symbols DS92CK16TMTC to DS92LV18TVV]

## DS92CK16TMTC
designator U?
3V BLVDS 1 to 6 Clock Buffer/Bus Transceiver, 24-pin TSSOP; PartNumber: DS92CK16TMTC; Manufacturer: National Semiconductor; PackageTopMarking: NSUZXYTTE#*DS92CK16T*MTC; PowerWise: N; CompType: Interface IC; Published: 4-Dec-2008; DatasheetVersion: Apr-2006; PackageVersion: revE, Mar-2003; PackageReference: MTC24; Publisher: Altium Limited; PackageDescription: Molded TSSOP, Jedec, 7.8 x 4.4 x 0.9mm Body, 24 Lead, 0.65mm Pitch; Supplier 1: Farnell; Supplier Part Number 1: 1286834; RoHS: N; PinCount: 24; Code_JEDEC: MO-153-AD; ComponentLink1Description: DS92CK16 Datasheet; ComponentLink1URL: http://www.national.com/ds/DS/DS92CK16.pdf; ComponentLink2Description: DS92CK16 Web Page; ComponentLink2URL: http://www.national.com/pf/DS/DS92CK16.html; ComponentLink3Description: MTC24 Package Page; ComponentLink3URL: http://www.national.com/packaging/folders/mtc24.html
footprint MTC24_N (TSOP, 24-Leads, Body 7.8x4.4mm, Pitch 0.65mm, IPC Medium Density)
footprint MTC24_L (TSOP, 24-Leads, Body 7.8x4.4mm, Pitch 0.65mm, IPC High Density)
footprint MTC24_M (TSOP, 24-Leads, Body 7.8x4.4mm, Pitch 0.65mm, IPC Low Density)
pins: 1 GND (power), 2 ~{OE} (in), 3 NC, 4 VCCA (power), 5 GNDA (power), 6 CLKI/O+ (in), 7 CLKI/O- (in), 8 GNDA (power), 9 CrdCLKIN (in), 10 NC, 11 ~{DE} (in), 12 GND (power), 13 CLKOUT5 (out), 14 GND (power), 15 CLKOUT4 (out), 16 VCC (power), 17 CLKOUT3 (out), 18 GND (power), 19 CLKOUT2 (out), 20 VCC (power), 21 CLKOUT1 (out), 22 GND (power), 23 CLKOUT0 (out), 24 VCC (power)

## DS92CK16TMTCX
designator U?
3V BLVDS 1 to 6 Clock Buffer/Bus Transceiver, 24-pin TSSOP; PartNumber: DS92CK16TMTCX; Manufacturer: National Semiconductor; PackageTopMarking: NSUZXYTTE#*DS92CK16T*MTC; PowerWise: N; CompType: Interface IC; Published: 1-Mar-2010; DatasheetVersion: Apr-2006; PackageVersion: revE, Mar-2003; PackageReference: MTC24; Publisher: Altium Limited; PackageDescription: Molded TSSOP, Jedec, 7.8 x 4.4 x 0.9mm Body, 24 Lead, 0.65mm Pitch; RoHS: N; PinCount: 24; Code_JEDEC: MO-153-AD; ComponentLink1Description: DS92CK16 Datasheet; ComponentLink1URL: http://www.national.com/ds/DS/DS92CK16.pdf; ComponentLink2Description: DS92CK16 Web Page; ComponentLink2URL: http://www.national.com/pf/DS/DS92CK16.html; ComponentLink3Description: MTC24 Package Page; ComponentLink3URL: http://www.national.com/packaging/folders/mtc24.html
footprint MTC24_N (TSOP, 24-Leads, Body 7.8x4.4mm, Pitch 0.65mm, IPC Medium Density)
footprint MTC24_L (TSOP, 24-Leads, Body 7.8x4.4mm, Pitch 0.65mm, IPC High Density)
footprint MTC24_M (TSOP, 24-Leads, Body 7.8x4.4mm, Pitch 0.65mm, IPC Low Density)
pins: 1 GND (power), 2 ~{OE} (in), 3 NC, 4 VCCA (power), 5 GNDA (power), 6 CLKI/O+ (in), 7 CLKI/O- (in), 8 GNDA (power), 9 CrdCLKIN (in), 10 NC, 11 ~{DE} (in), 12 GND (power), 13 CLKOUT5 (out), 14 GND (power), 15 CLKOUT4 (out), 16 VCC (power), 17 CLKOUT3 (out), 18 GND (power), 19 CLKOUT2 (out), 20 VCC (power), 21 CLKOUT1 (out), 22 GND (power), 23 CLKOUT0 (out), 24 VCC (power)

## DS92LV010ATM
designator U?
Bus LVDS 3.3/5.0V Single Transceiver, 8-pin Narrow SOIC; PartNumber: DS92LV010ATM; Manufacturer: National Semiconductor; PackageTopMarking: NSZXTT*LV010*ATM; PowerWise: N; CompType: Interface IC; Published: 4-Dec-2008; DatasheetVersion: Nov-2007; PackageVersion: revM, May-2009; PackageReference: M08A; Publisher: Altium Limited; PackageDescription: SOIC Narrow, 4.9 x 3.9 x 1.45mm, 8 Lead, 1.27mm Pitch; Supplier 1: Farnell; Supplier Part Number 1: 9485791; RoHS: N; PinCount: 8; Code_JEDEC: MS-012-AA; Code_IPC: SOIC127P600-8; ComponentLink1Description: DS92LV010A Datasheet; ComponentLink1URL: http://www.national.com/ds/DS/DS92LV010A.pdf; ComponentLink2Description: DS92LV010A Web Page; ComponentLink2URL: http://www.national.com/pf/DS/DS92LV010A.html; ComponentLink3Description: M08A Package Page; ComponentLink3URL: http://www.national.com/packaging/folders/m08a.html
footprint M08A_N (SOIC, 8-Leads, Body 4.9x3.9mm, Pitch 1.27mm, IPC Medium Density)
footprint M08A_L (SOIC, 8-Leads, Body 4.9x3.9mm, Pitch 1.27mm, IPC High Density)
footprint M08A_M (SOIC, 8-Leads, Body 4.9x3.9mm, Pitch 1.27mm, IPC Low Density)
pins: 1 DE (in), 2 DIN (in), 3 ROUT (out), 4 GND (power), 5 ~{RE} (in), 6 DO-/RI- (io), 7 DO+/RI+ (io), 8 VCC (power)

## DS92LV010ATM/NOPB
designator U?
Bus LVDS 3.3/5.0V Single Transceiver, 8-pin Narrow SOIC, Pb-Free; PartNumber: DS92LV010ATM/NOPB; Manufacturer: National Semiconductor; PackageTopMarking: NSZXTT*LV010*ATM; PowerWise: N; CompType: Interface IC; Published: 1-Mar-2010; DatasheetVersion: Nov-2007; PackageVersion: revM, May-2009; PackageReference: M08A; Publisher: Altium Limited; PackageDescription: SOIC Narrow, 4.9 x 3.9 x 1.45mm, 8 Lead, 1.27mm Pitch; Supplier 1: Digi-Key; Supplier Part Number 1: DS92LV010ATM-ND; Supplier 2: Farnell; Supplier Part Number 2: 1469018; RoHS: Y; PinCount: 8; Code_JEDEC: MS-012-AA; Code_IPC: SOIC127P600-8; ComponentLink1Description: DS92LV010A Datasheet; ComponentLink1URL: http://www.national.com/ds/DS/DS92LV010A.pdf; ComponentLink2Description: DS92LV010A Web Page; ComponentLink2URL: http://www.national.com/pf/DS/DS92LV010A.html; ComponentLink3Description: M08A Package Page; ComponentLink3URL: http://www.national.com/packaging/folders/m08a.html
footprint M08A_N (SOIC, 8-Leads, Body 4.9x3.9mm, Pitch 1.27mm, IPC Medium Density)
footprint M08A_L (SOIC, 8-Leads, Body 4.9x3.9mm, Pitch 1.27mm, IPC High Density)
footprint M08A_M (SOIC, 8-Leads, Body 4.9x3.9mm, Pitch 1.27mm, IPC Low Density)
pins: 1 DE (in), 2 DIN (in), 3 ROUT (out), 4 GND (power), 5 ~{RE} (in), 6 DO-/RI- (io), 7 DO+/RI+ (io), 8 VCC (power)

## DS92LV010ATMX
designator U?
Bus LVDS 3.3/5.0V Single Transceiver, 8-pin Narrow SOIC; PartNumber: DS92LV010ATMX; Manufacturer: National Semiconductor; PackageTopMarking: NSZXTT*LV010*ATM; PowerWise: N; CompType: Interface IC; Published: 1-Mar-2010; DatasheetVersion: Nov-2007; PackageVersion: revM, May-2009; PackageReference: M08A; Publisher: Altium Limited; PackageDescription: SOIC Narrow, 4.9 x 3.9 x 1.45mm, 8 Lead, 1.27mm Pitch; RoHS: N; PinCount: 8; Code_JEDEC: MS-012-AA; Code_IPC: SOIC127P600-8; ComponentLink1Description: DS92LV010A Datasheet; ComponentLink1URL: http://www.national.com/ds/DS/DS92LV010A.pdf; ComponentLink2Description: DS92LV010A Web Page; ComponentLink2URL: http://www.national.com/pf/DS/DS92LV010A.html; ComponentLink3Description: M08A Package Page; ComponentLink3URL: http://www.national.com/packaging/folders/m08a.html
footprint M08A_N (SOIC, 8-Leads, Body 4.9x3.9mm, Pitch 1.27mm, IPC Medium Density)
footprint M08A_L (SOIC, 8-Leads, Body 4.9x3.9mm, Pitch 1.27mm, IPC High Density)
footprint M08A_M (SOIC, 8-Leads, Body 4.9x3.9mm, Pitch 1.27mm, IPC Low Density)
pins: 1 DE (in), 2 DIN (in), 3 ROUT (out), 4 GND (power), 5 ~{RE} (in), 6 DO-/RI- (io), 7 DO+/RI+ (io), 8 VCC (power)

## DS92LV16TVHG
designator U?
16-Bit Bus LVDS Serializer/Deserializer - 25 - 80 MHz, 80-pin LQFP; PartNumber: DS92LV16TVHG; Manufacturer: National Semiconductor; PackageTopMarking: NSUZXYTTE#*DS92LV16TVHG*BBBBB; PowerWise: N; CompType: Interface IC; Published: 4-Dec-2008; DatasheetVersion: Feb-2002; PackageVersion: revE, Feb-2005; PackageReference: VHG80A; Publisher: Altium Limited; PackageDescription: LQFP, Jedec, Metric, 12 x 12 x 1.4mm, 80 Lead, 0.5mm Pitch; Supplier 1: Farnell; Supplier Part Number 1: 8206848; RoHS: N; PinCount: 80; Code_JEDEC: MS-026-BDD; ComponentLink1Description: DS92LV16 Datasheet; ComponentLink1URL: http://www.national.com/ds/DS/DS92LV16.pdf; ComponentLink2Description: DS92LV16 Web Page; ComponentLink2URL: http://www.national.com/pf/DS/DS92LV16.html; ComponentLink3Description: VHG80A Package Page; ComponentLink3URL: http://www.national.com/packaging/folders/vhg80a.html
footprint VHG80A_N (Thin QFP, 80-Leads, Body 12x12mm, Pitch 0.5mm, IPC Medium Density)
footprint VHG80A_L (Thin QFP, 80-Leads, Body 12x12mm, Pitch 0.5mm, IPC High Density)
footprint VHG80A_M (Thin QFP, 80-Leads, Body 12x12mm, Pitch 0.5mm, IPC Low Density)
part A pins: 1 ~{RPWDN} (in), 2 REN (in), 3 CONFIG1, 4 REFCLK (in), 7 RIN+ (in), 8 RIN- (in), 13 DO+ (out), 14 DO- (out), 17 TCLK (in), 18 CONFIG2, 19 DEN (in), 20 SYNC (in), 21 DIN0 (in), 22 DIN1 (in), 23 DIN2 (in), 24 DIN3 (in), 25 DIN4 (in), 26 DIN5 (in), 27 DIN6 (in), 28 DIN7 (in), 33 DIN8 (in), 34 DIN9 (in), 35 DIN10 (in), 36 DIN11 (in), 37 DIN12 (in), 38 DIN13 (in), 39 DIN14 (in), 40 DIN15 (in), 42 ~{TPWDN} (in), 45 ROUT0 (out), 46 ROUT1 (out), 47 ROUT2 (out), 48 ROUT3 (out), 49 RCLK (out), 54 ROUT4 (out), 55 ROUT5 (out), 56 ROUT6 (out), 57 ROUT7 (out), 63 ~{LOCK} (out), 64 ROUT8 (out), 65 ROUT9 (out), 66 ROUT10 (out), 67 ROUT11 (out), 70 ROUT12 (out), 71 ROUT13 (out), 72 ROUT14 (out), 73 ROUT15 (out), 78 LINE_LE (in), 79 LOCAL_LE (in)
part B pins: 5 AVDD (power), 6 AGND (power), 9 AGND (power), 10 AVDD (power), 11 AVDD (power), 12 AGND (power), 15 AVDD (power), 16 AGND (power), 29 PGND (power), 30 PVDD (power), 31 PVDD (power), 32 PGND (power), 41 DGND (power), 43 DVDD (power), 44 DGND (power), 50 DVDD (power), 51 DGND (power), 52 DGND (power), 53 DVDD (power), 58 DVDD (power), 59 DGND (power), 60 DGND (power), 61 DGND (power), 62 DVDD (power), 68 DGND (power), 69 DVDD (power), 74 PGND (power), 75 PVDD (power), 76 PGND (power), 77 PVDD (power), 80 DGND (power)

## DS92LV16TVHG/NOPB
designator U?
16-Bit Bus LVDS Serializer/Deserializer - 25 - 80 MHz, 80-pin LQFP, Pb-Free; PartNumber: DS92LV16TVHG/NOPB; Manufacturer: National Semiconductor; PackageTopMarking: NSUZXYTTE#*DS92LV16TVHG*BBBBB; PowerWise: N; CompType: Interface IC; Published: 1-Mar-2010; DatasheetVersion: Feb-2002; PackageVersion: revE, Feb-2005; PackageReference: VHG80A; Publisher: Altium Limited; PackageDescription: LQFP, Jedec, Metric, 12 x 12 x 1.4mm, 80 Lead, 0.5mm Pitch; Supplier 1: Digi-Key; Supplier Part Number 1: DS92LV16TVHG-ND; RoHS: Y; PinCount: 80; Code_JEDEC: MS-026-BDD; ComponentLink1Description: DS92LV16 Datasheet; ComponentLink1URL: http://www.national.com/ds/DS/DS92LV16.pdf; ComponentLink2Description: DS92LV16 Web Page; ComponentLink2URL: http://www.national.com/pf/DS/DS92LV16.html; ComponentLink3Description: VHG80A Package Page; ComponentLink3URL: http://www.national.com/packaging/folders/vhg80a.html
footprint VHG80A_N (Thin QFP, 80-Leads, Body 12x12mm, Pitch 0.5mm, IPC Medium Density)
footprint VHG80A_L (Thin QFP, 80-Leads, Body 12x12mm, Pitch 0.5mm, IPC High Density)
footprint VHG80A_M (Thin QFP, 80-Leads, Body 12x12mm, Pitch 0.5mm, IPC Low Density)
part A pins: 1 ~{RPWDN} (in), 2 REN (in), 3 CONFIG1, 4 REFCLK (in), 7 RIN+ (in), 8 RIN- (in), 13 DO+ (out), 14 DO- (out), 17 TCLK (in), 18 CONFIG2, 19 DEN (in), 20 SYNC (in), 21 DIN0 (in), 22 DIN1 (in), 23 DIN2 (in), 24 DIN3 (in), 25 DIN4 (in), 26 DIN5 (in), 27 DIN6 (in), 28 DIN7 (in), 33 DIN8 (in), 34 DIN9 (in), 35 DIN10 (in), 36 DIN11 (in), 37 DIN12 (in), 38 DIN13 (in), 39 DIN14 (in), 40 DIN15 (in), 42 ~{TPWDN} (in), 45 ROUT0 (out), 46 ROUT1 (out), 47 ROUT2 (out), 48 ROUT3 (out), 49 RCLK (out), 54 ROUT4 (out), 55 ROUT5 (out), 56 ROUT6 (out), 57 ROUT7 (out), 63 ~{LOCK} (out), 64 ROUT8 (out), 65 ROUT9 (out), 66 ROUT10 (out), 67 ROUT11 (out), 70 ROUT12 (out), 71 ROUT13 (out), 72 ROUT14 (out), 73 ROUT15 (out), 78 LINE_LE (in), 79 LOCAL_LE (in)
part B pins: 5 AVDD (power), 6 AGND (power), 9 AGND (power), 10 AVDD (power), 11 AVDD (power), 12 AGND (power), 15 AVDD (power), 16 AGND (power), 29 PGND (power), 30 PVDD (power), 31 PVDD (power), 32 PGND (power), 41 DGND (power), 43 DVDD (power), 44 DGND (power), 50 DVDD (power), 51 DGND (power), 52 DGND (power), 53 DVDD (power), 58 DVDD (power), 59 DGND (power), 60 DGND (power), 61 DGND (power), 62 DVDD (power), 68 DGND (power), 69 DVDD (power), 74 PGND (power), 75 PVDD (power), 76 PGND (power), 77 PVDD (power), 80 DGND (power)

## DS92LV16TVHGX
designator U?
16-Bit Bus LVDS Serializer/Deserializer - 25 - 80 MHz, 80-pin LQFP; PartNumber: DS92LV16TVHGX; Manufacturer: National Semiconductor; PackageTopMarking: NSUZXYTTE#*DS92LV16TVHG*BBBBB; PowerWise: N; CompType: Interface IC; Published: 1-Mar-2010; DatasheetVersion: Feb-2002; PackageVersion: revE, Feb-2005; PackageReference: VHG80A; Publisher: Altium Limited; PackageDescription: LQFP, Jedec, Metric, 12 x 12 x 1.4mm, 80 Lead, 0.5mm Pitch; RoHS: N; PinCount: 80; Code_JEDEC: MS-026-BDD; ComponentLink1Description: DS92LV16 Datasheet; ComponentLink1URL: http://www.national.com/ds/DS/DS92LV16.pdf; ComponentLink2Description: DS92LV16 Web Page; ComponentLink2URL: http://www.national.com/pf/DS/DS92LV16.html; ComponentLink3Description: VHG80A Package Page; ComponentLink3URL: http://www.national.com/packaging/folders/vhg80a.html
footprint VHG80A_N (Thin QFP, 80-Leads, Body 12x12mm, Pitch 0.5mm, IPC Medium Density)
footprint VHG80A_L (Thin QFP, 80-Leads, Body 12x12mm, Pitch 0.5mm, IPC High Density)
footprint VHG80A_M (Thin QFP, 80-Leads, Body 12x12mm, Pitch 0.5mm, IPC Low Density)
part A pins: 1 ~{RPWDN} (in), 2 REN (in), 3 CONFIG1, 4 REFCLK (in), 7 RIN+ (in), 8 RIN- (in), 13 DO+ (out), 14 DO- (out), 17 TCLK (in), 18 CONFIG2, 19 DEN (in), 20 SYNC (in), 21 DIN0 (in), 22 DIN1 (in), 23 DIN2 (in), 24 DIN3 (in), 25 DIN4 (in), 26 DIN5 (in), 27 DIN6 (in), 28 DIN7 (in), 33 DIN8 (in), 34 DIN9 (in), 35 DIN10 (in), 36 DIN11 (in), 37 DIN12 (in), 38 DIN13 (in), 39 DIN14 (in), 40 DIN15 (in), 42 ~{TPWDN} (in), 45 ROUT0 (out), 46 ROUT1 (out), 47 ROUT2 (out), 48 ROUT3 (out), 49 RCLK (out), 54 ROUT4 (out), 55 ROUT5 (out), 56 ROUT6 (out), 57 ROUT7 (out), 63 ~{LOCK} (out), 64 ROUT8 (out), 65 ROUT9 (out), 66 ROUT10 (out), 67 ROUT11 (out), 70 ROUT12 (out), 71 ROUT13 (out), 72 ROUT14 (out), 73 ROUT15 (out), 78 LINE_LE (in), 79 LOCAL_LE (in)
part B pins: 5 AVDD (power), 6 AGND (power), 9 AGND (power), 10 AVDD (power), 11 AVDD (power), 12 AGND (power), 15 AVDD (power), 16 AGND (power), 29 PGND (power), 30 PVDD (power), 31 PVDD (power), 32 PGND (power), 41 DGND (power), 43 DVDD (power), 44 DGND (power), 50 DVDD (power), 51 DGND (power), 52 DGND (power), 53 DVDD (power), 58 DVDD (power), 59 DGND (power), 60 DGND (power), 61 DGND (power), 62 DVDD (power), 68 DGND (power), 69 DVDD (power), 74 PGND (power), 75 PVDD (power), 76 PGND (power), 77 PVDD (power), 80 DGND (power)